# Altium integrated library Microprocessors.IntLib: 1 symbol
Pins are listed as number, name and electrical type; pins without a type are passive.

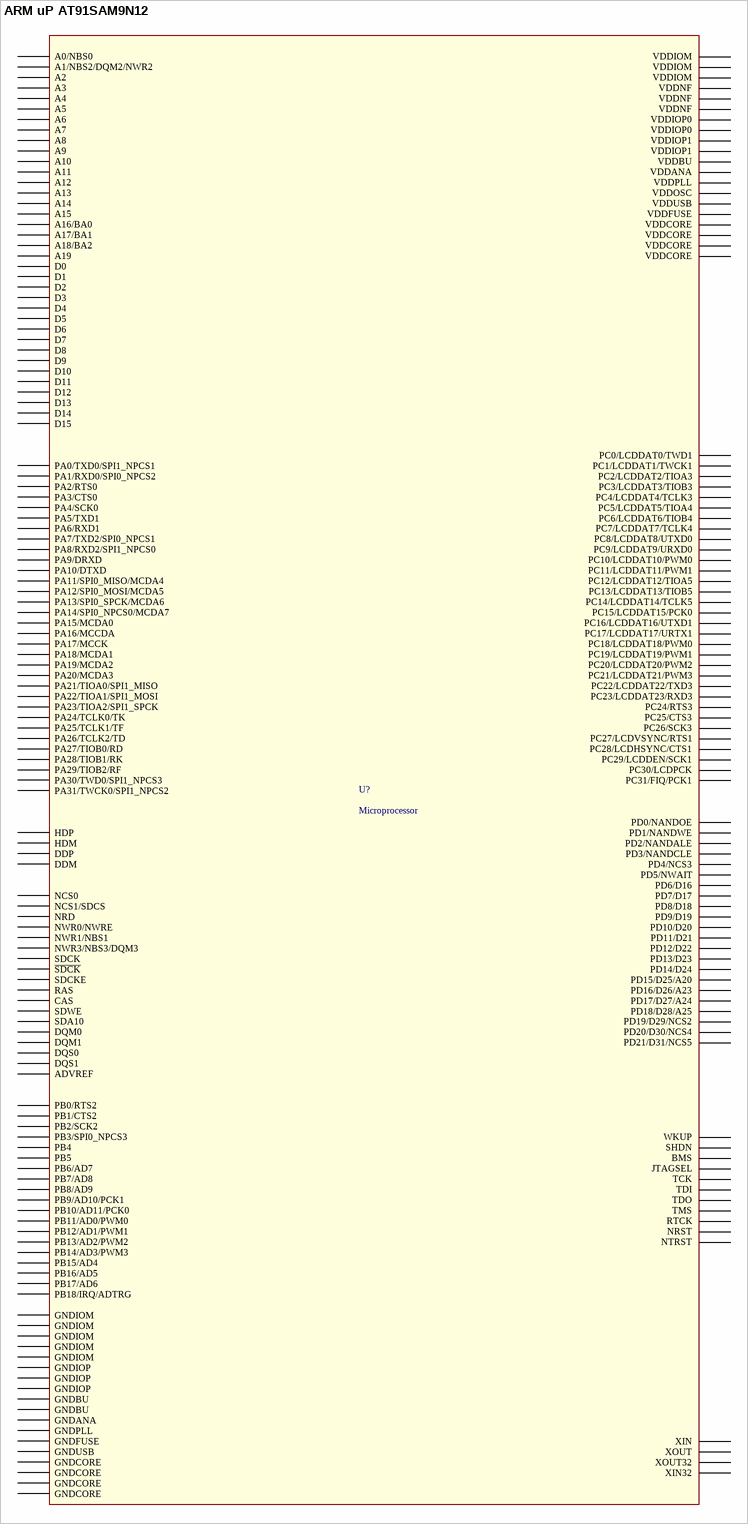
[diagram p0: symbol ARM uP AT91SAM9N12]

## ARM uP AT91SAM9N12
designator U?, comment Microprocessor
ARM Processor; Manufacturer Part No.: AT91SAM9N12-CU; Digi-Key Part No.: AT91SAM9N12-CU-ND
footprint AT91SAM9N12-CU-ND (BGA, 217-Leads, Body 15.00x15.00mmx1.16mm, Pitch 0.80mm)
pins: A1 PB11/AD0/PWM0, A2 ADVREF, A3 XOUT32, A4 XIN32, A5 WKUP, A6 NWR0/NWRE, A7 DQS1, A8 DQM1, A9 ~{SDCK}, A10 SDCK, A11 D14, A12 D12, A13 D6, A14 D1, A15 A18/BA2, A16 A13, A17 A4, B1 PB13/AD2/PWM2, B2 GNDANA, B3 GNDBU, B4 JTAGSEL, B5 SHDN, B6 SDA10, B7 NCS0, B8 DQS0, B9 RAS, B10 SDWE, B11 D13, B12 D9, B13 D5, B14 D0, B15 A16/BA0, B16 A12, B17 A3, C1 PB16/AD5, C2 PB14/AD3/PWM3, C3 PB12/AD1/PWM1, C4 VDDANA, C5 NCS1/SDCS, C6 NWR1/NBS1, C7 NRD, C8 VDDCORE, C9 DQM0, C10 D15, C11 D10, C12 D7, C13 D4, C14 D2, C15 A14, C16 A10, C17 A1/NBS2/DQM2/NWR2, D1 PB8/AD9, D2 PB6/AD7, D3 PB15/AD4, D4 PB18/IRQ/ADTRG, D5 GNDBU, D6 VDDBU, D7 NWR3/NBS3/DQM3, D8 GNDCORE, D9 CAS, D10 SDCKE, D11, D12 D8, D13 D3, D14 A19, D15 A15, D16 A7, D17 A0/NBS0, E1 PB10/AD11/PCK0, E2 PB7/AD8, E3 PB17/AD6, E4 PB0/RTS2, E14 A17/BA1, E15 A8, E16 A6, E17 PD21/D31/NCS5, F1 PB9/AD10/PCK1, F2 PB3/SPI0_NPCS3, F3 PB1/CTS2, F4 PB2/SCK2, F14 A11, F15 A5, F16 A2, F17 PD19/D29/NCS2, G1 PC1/LCDDAT1/TWCK1, G2 PC0/LCDDAT0/TWD1, G3 PB5, G4 PB4, G14 A9, G15 VDDCORE, G16 PD20/D30/NCS4, G17 PD16/D26/A23, H1 PC7/LCDDAT7/TCLK4, H2 PC6/LCDDAT6/TIOB4, H3 PC4/LCDDAT4/TCLK3, H4 PC2/LCDDAT2/TIOA3, H8 VDDIOM, H9 VDDIOM, H10 VDDIOM, H14 GNDCORE, H15 PD18/D28/A25, H16 PD17/D27/A24, H17 PD14/D24, J1 PC3/LCDDAT3/TIOB3, J2 PC9/LCDDAT9/URXD0, J3 PC5/LCDDAT5/TIOA4, J4 VDDCORE, J8 GNDIOM, J9 GNDIOM, J10 GNDIOM, J14 VDDNF, J15 PD15/D25/A20, J16 PD13/D23, J17 PD12/D22, K1 PC11/LCDDAT11/PWM1, K2 PC8/LCDDAT8/UTXD0, K3 PC13/LCDDAT13/TIOB5, K4 PC16/LCDDAT16/UTXD1, K8 GNDCORE, K9 GNDIOM, K10 GNDIOM, K14 VDDNF, K15 PD11/D21, K16 PD10/D20, K17 PD9/D19, L1 PC10/LCDDAT10/PWM0, L2 PC12/LCDDAT12/TIOA5, L3 VDDIOP1, L4 VDDIOP1, L14 VDDNF, L15 PD6/D16, L16 PD7/D17, L17 PD8/D18, M1 PC14/LCDDAT14/TCLK5, M2 PC15/LCDDAT15/PCK0, M3 PC17/LCDDAT17/URTX1, M4 PC28/LCDHSYNC/CTS1, M14 PD3/NANDCLE, M15 PD2/NANDALE, M16 GNDFUSE, M17 PD5/NWAIT, N1 PC18/LCDDAT18/PWM0, N2 PC19/LCDDAT19/PWM1, N3 PC20/LCDDAT20/PWM2, N4 PC29/LCDDEN/SCK1, N14 PD1/NANDWE, N16 VDDFUSE, N17 HDM, P1 PC21/LCDDAT21/PWM3, P2 PC22/LCDDAT22/TXD3, P3 PC23/LCDDAT23/RXD3, P4 PA3/CTS0, P5 PA6/RXD1, P6 GNDIOP, P7 GNDIOP, P8 PA18/MCDA1, P9 VDDIOP0, P10 VDDCORE, P11 GNDCORE, P12 VDDIOP0, P13 GNDIOP, P14 GNDPLL, P15 PD0/NANDOE, P16 PD4/NCS3, P17 HDP, R1 PC24/RTS3, R2 PC26/SCK3, R3 PC25/CTS3, R4 PA7/TXD2/SPI0_NPCS1, R5 PA9/DRXD, R6 PA10/DTXD, R7 PA16/MCCDA, R8 PA20/MCDA3, R9 PA26/TCLK2/TD, R10 PA30/TWD0/SPI1_NPCS3, R11 TDI, R12 TCK, R13 NRST, R14 VDDOSC, R15 VDDUSB, R16 DDM, R17 DDP, T1 PC27/LCDVSYNC/RTS1, T2 PC30/LCDPCK, T3 PA0/TXD0/SPI1_NPCS1, T4 PA4/SCK0, T5 PA11/SPI0_MISO/MCDA4, T6 PA12/SPI0_MOSI/MCDA5, T7 PA15/MCDA0, T8 PA19/MCDA2, T9 PA23/TIOA2/SPI1_SPCK, T10 PA25/TCLK1/TF, T11 PA28/TIOB1/RK, T12 PA31/TWCK0/SPI1_NPCS2, T13 TMS, T14 RTCK, T15 NTRST, T16 VDDPLL, T17 GNDUSB, U1 PC31/FIQ/PCK1, U2 PA1/RXD0/SPI0_NPCS2, U3 PA2/RTS0, U4 PA5/TXD1, U5 PA13/SPI0_SPCK/MCDA6, U6 PA8/RXD2/SPI1_NPCS0, U7 PA14/SPI0_NPCS0/MCDA7, U8 PA17/MCCK, U9 PA21/TIOA0/SPI1_MISO, U10 PA22/TIOA1/SPI1_MOSI, U11 PA24/TCLK0/TK, U12 PA27/TIOB0/RD, U13 PA29/TIOB2/RF, U14 TDO, U15 BMS, U16 XOUT, U17 XIN